# Altium footprint library 0603x4.PcbLib: 1 footprints
Each footprint in its own frame and in the unit in brackets; x right, y up, seen from the top. Pads: shape width x height; smd on the part's side, far side on the other; paste and mask are expansions set on the pad; w line width, h text height; cw(c..) or ccw(c..) is an arc to the next point about the centre after c.
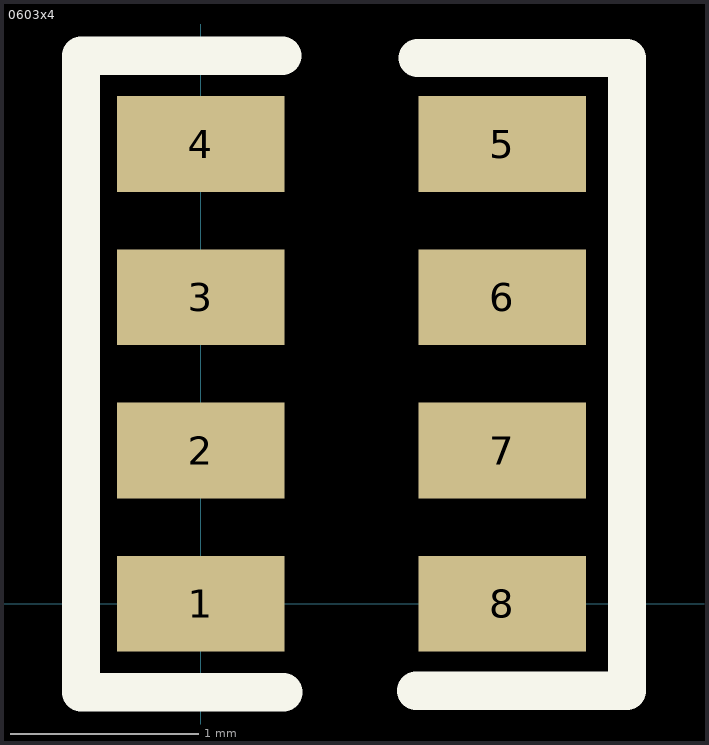
[diagram p0: the footprint, top view; thin cyan lines are the x and y axes]

## 0603x4 [mil]
height 25
pads (8):
  rect 35x20 smd: 1(0,0) 2(0,32) 3(0,64) 4(0,96) 5(63,96) 6(63,64) 7(63,32) 8(63,0)
TopOverlay:
  lines w8: 17,114.43 -25,114.43 -25,-18.45 17.29,-18.45 ; 44.96,-18.14 89.02,-18.14 89.02,113.96 45.27,113.96
Mechanical4:
  text "0.0311" at 2,0 h1
3D body: height 24, standoff 0, extent 0,-14.76 63,111.24